# Altium schematic symbol library vitech_fuses.SchLib: 3 symbols
Pins are listed as number, name and electrical type; pins without a type are passive.

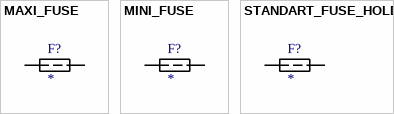
[diagram p0: symbols MAXI_FUSE to STANDART_FUSE_HOLDER]

## MAXI_FUSE
designator F?
Fuse MAXI Size; Manufacturer_Name: LITTELFUSE; Manufacturer_Part_Number: 17861640001; Datasheet Link: https://www.littelfuse.com/media?resourcetype=2d-prints&itemid=dcb90cf3-0771-4ccd-8726-26101cf00574&filename=ol-178.6164.0000(c); Height: 17.5mm
footprint FUSE_MAXI_50A
pins: 1, 2

## MINI_FUSE
designator F?
Fuse MAXI Size; Manufacturer_Name: LITTELFUSE; Manufacturer_Part_Number: 17861640001; Datasheet Link: https://www.littelfuse.com/media?resourcetype=2d-prints&itemid=dcb90cf3-0771-4ccd-8726-26101cf00574&filename=ol-178.6164.0000(c); Height: 17.5mm
footprint MINI_FUSE
pins: 1, 2

## STANDART_FUSE_HOLDER
designator F?
Automotive Fuse holder THT-Mount; Manufacturer_Name: LITTELFUSE; Manufacturer_Part_Number: 17861640001; Datasheet Link: https://www.littelfuse.com/media?resourcetype=2d-prints&itemid=dcb90cf3-0771-4ccd-8726-26101cf00574&filename=ol-178.6164.0000(c); Height: 17.5mm
footprint 17861640001
pins: 1, 2